# Altium schematic symbol library CONNECTORS_MKlib.SchLib: 57 symbols
Pins are listed as number, name and electrical type; pins without a type are passive.

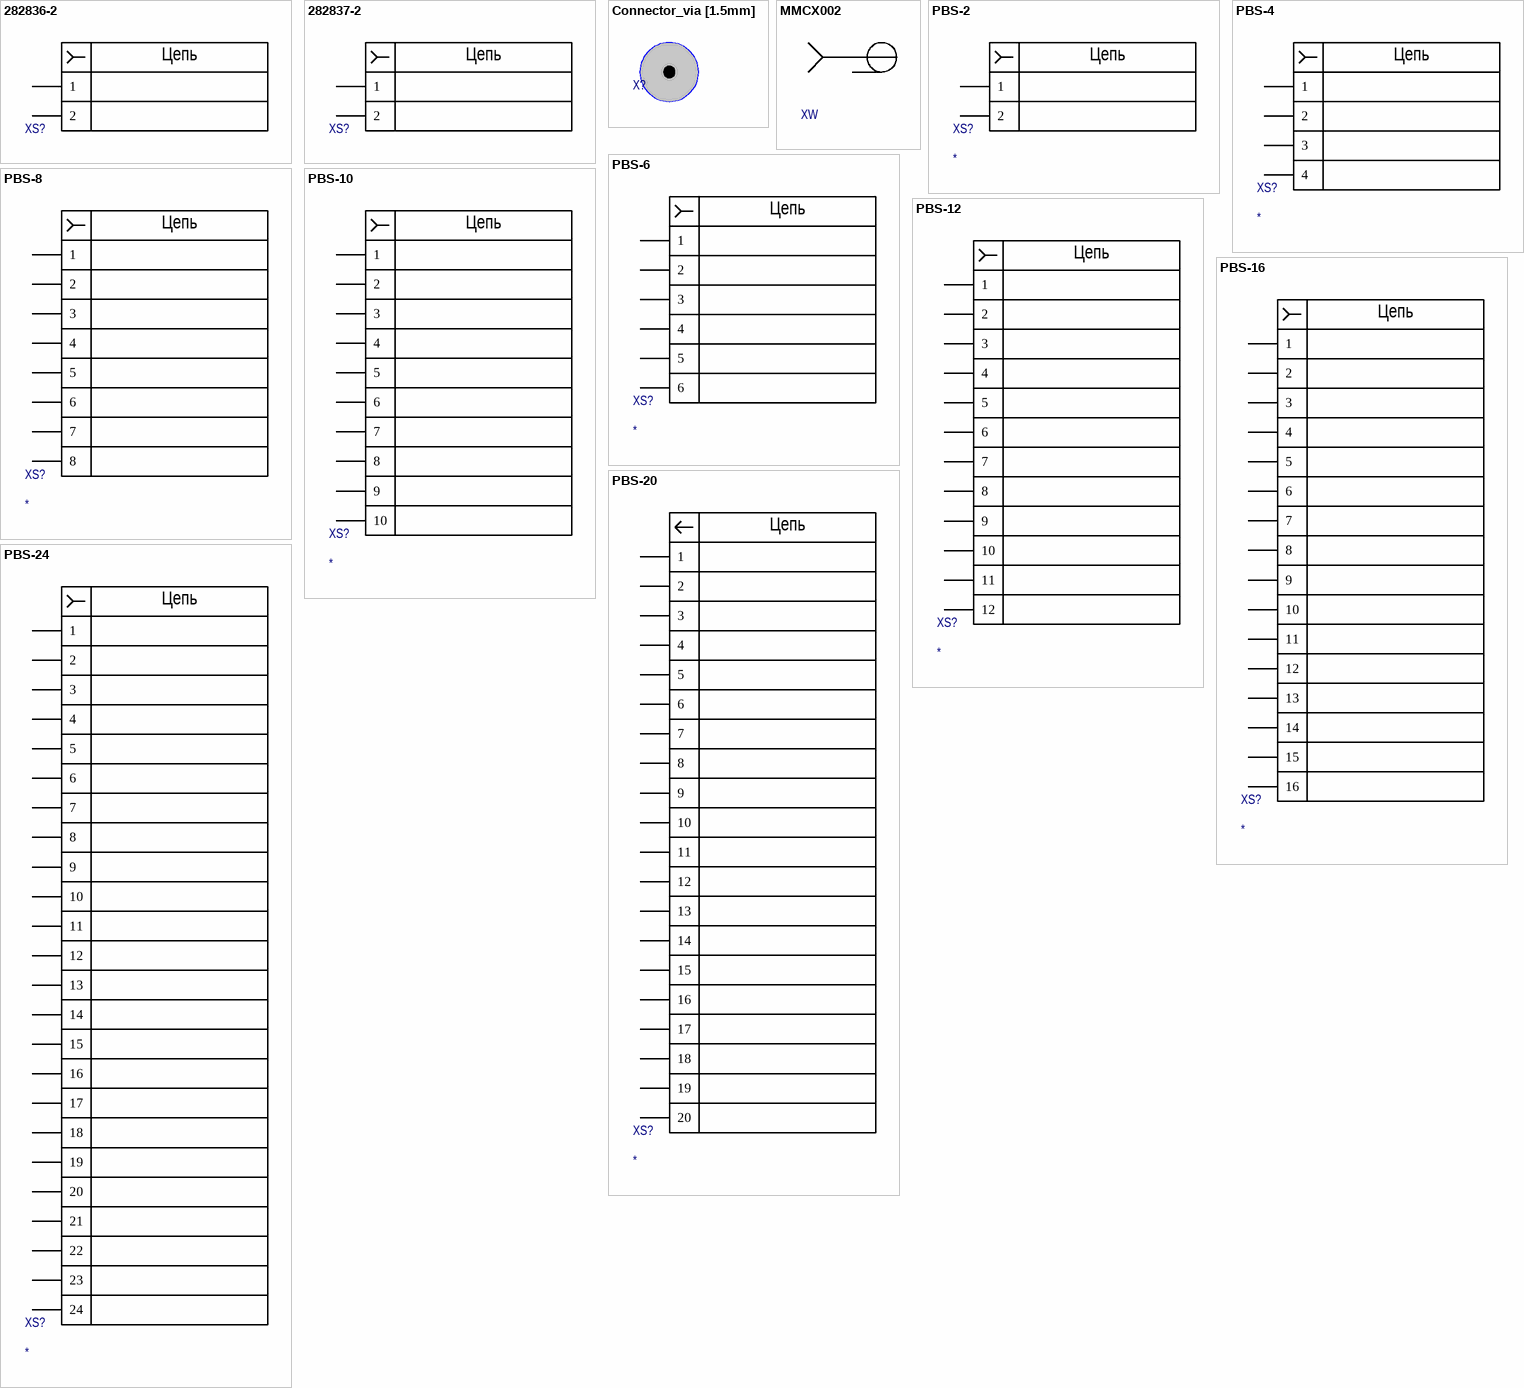
[diagram p0: symbols 282836-2 to PBS-24]

## 282836-2
designator XS?  (value not drawn)
Terminal Block Connector Wire Receptacle 2 5.0mm
footprint 282836-2 (5mm pitch)
pins: 1, 2
text: Цепь

## 282837-2
designator XS?  (value not drawn)
Terminal Block Connector Wire Receptacle 2 5.08mm
footprint 282837-2 (5.08mm pitch)
pins: 1, 2
text: Цепь

## Connector_via [1.5mm]
designator X?  (value not drawn)
footprint CONNECTOR_VIA[1.5MM]
pins: 1

## MMCX002
designator XW  (value not drawn)
footprint MMCX002
pins: 1, 2

## PBS-2
designator XS?
Pin socket 2.54mm
footprint PBS-2
pins: 1, 2
text: Цепь

## PBS-4
designator XS?
Pin socket 2.54mm
footprint PBS-4
pins: 1, 2, 3, 4
text: Цепь

## PBS-6
designator XS?
Pin socket 2.54mm
footprint PBS-6
pins: 1, 2, 3, 4, 5, 6
text: Цепь

## PBS-8
designator XS?
Pin socket 2.54mm
footprint PBS-8
pins: 1, 2, 3, 4, 5, 6, 7, 8
text: Цепь

## PBS-10
designator XS?
Pin socket 2.54mm
footprint PBS-12
pins: 1, 2, 3, 4, 5, 6, 7, 8, 9, 10
text: Цепь

## PBS-12
designator XS?
Pin socket 2.54mm
footprint PBS-12
pins: 1, 2, 3, 4, 5, 6, 7, 8, 9, 10, 11, 12
text: Цепь

## PBS-16
designator XS?
Pin socket 2.54mm
footprint PBS-16
pins: 1, 2, 3, 4, 5, 6, 7, 8, 9, 10, 11, 12, 13, 14, 15, 16
text: Цепь

## PBS-20
designator XS?
Pin socket 2.54mm
footprint PBS-20
pins: 1, 2, 3, 4, 5, 6, 7, 8, 9, 10, 11, 12, 13, 14, 15, 16, 17, 18, 19, 20
text: Цепь

## PBS-24
designator XS?
Pin socket 2.54mm
footprint PBS-24
pins: 1, 2, 3, 4, 5, 6, 7, 8, 9, 10, 11, 12, 13, 14, 15, 16, 17, 18, 19, 20, 21, 22, 23, 24
text: Цепь

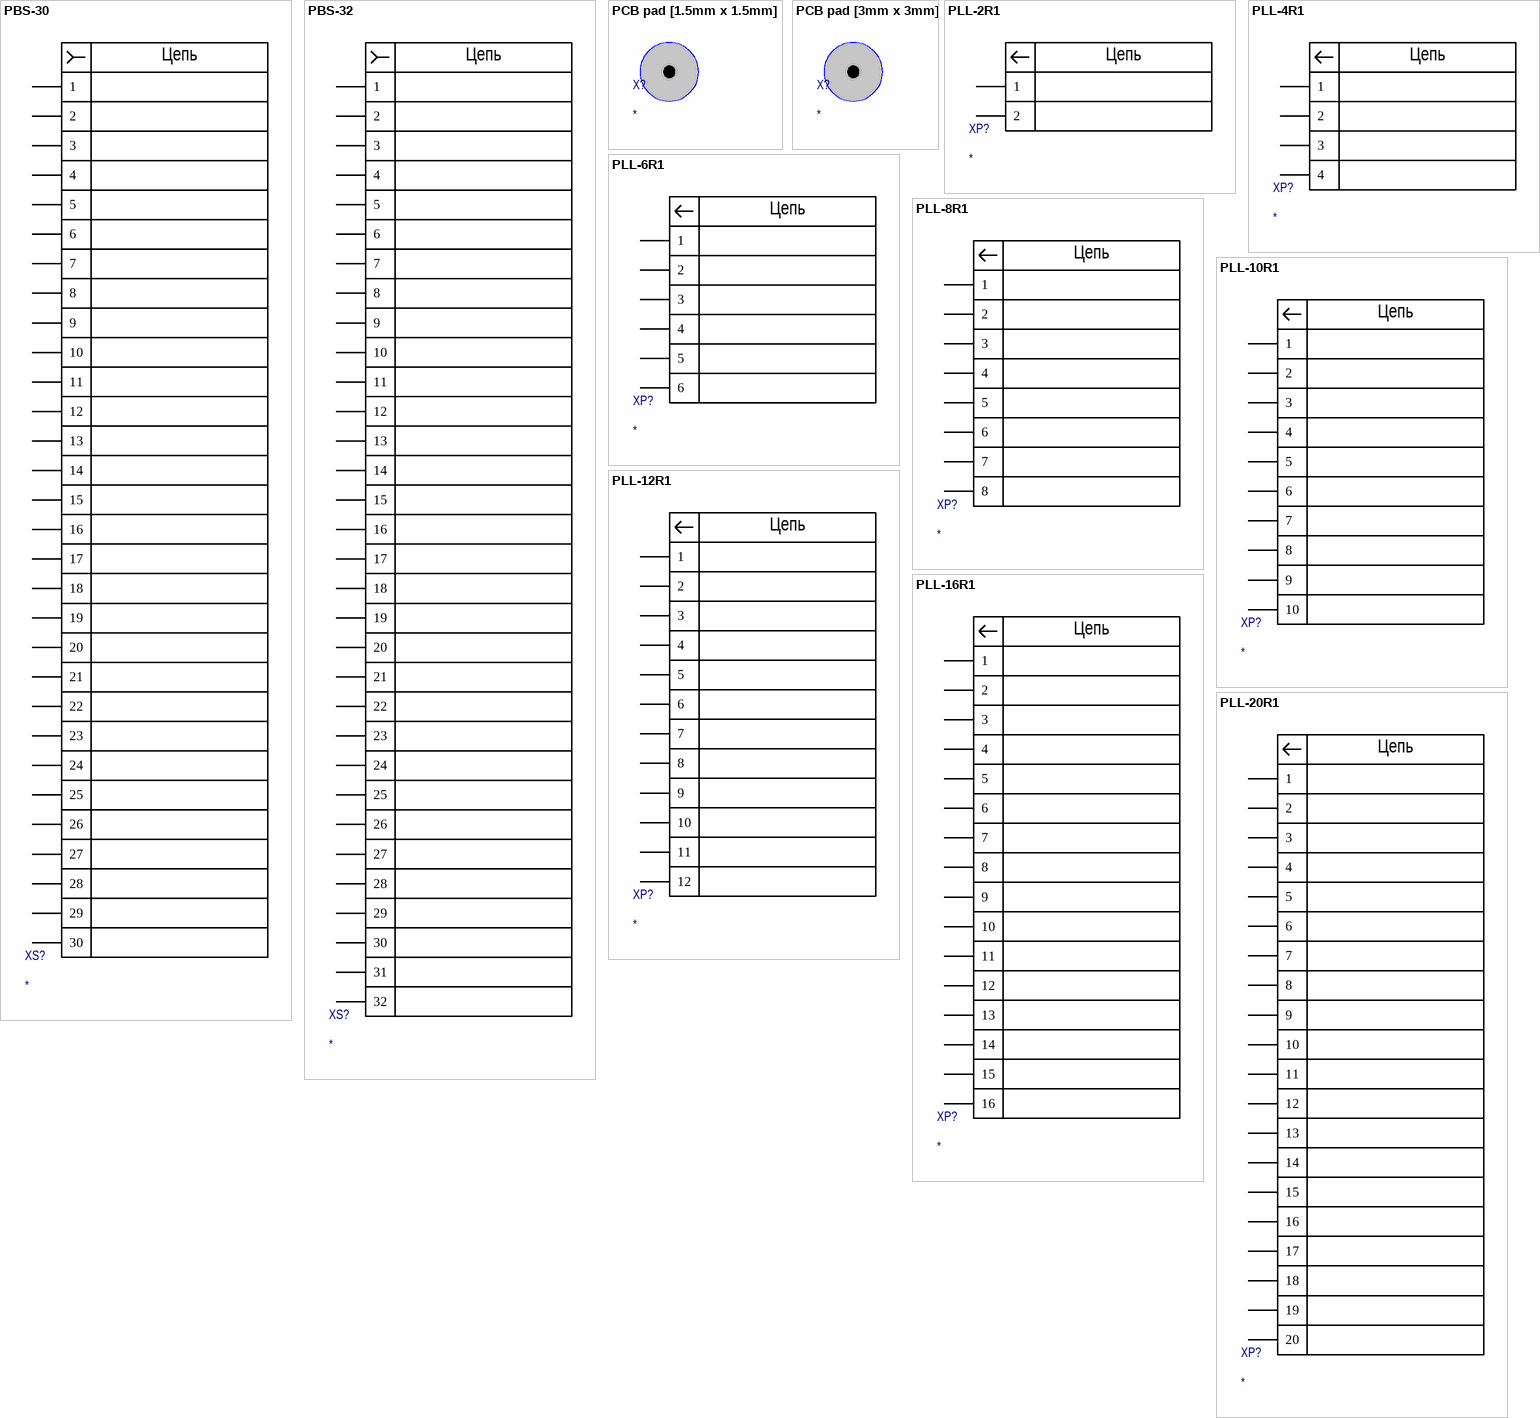
[diagram p1: symbols PBS-30 to PLL-20R1]

## PBS-30
designator XS?
Pin socket 2.54mm
footprint PBS-30
pins: 1, 2, 3, 4, 5, 6, 7, 8, 9, 10, 11, 12, 13, 14, 15, 16, 17, 18, 19, 20, 21, 22, 23, 24, 25, 26, 27, 28, 29, 30
text: Цепь

## PBS-32
designator XS?
Pin socket 2.54mm
footprint PBS-32
pins: 1, 2, 3, 4, 5, 6, 7, 8, 9, 10, 11, 12, 13, 14, 15, 16, 17, 18, 19, 20, 21, 22, 23, 24, 25, 26, 27, 28, 29, 30, 31, 32
text: Цепь

## PCB pad [1.5mm x 1.5mm]
designator X?
General purpose square pcb pad
footprint PCB pad [1.5mm x 1.5mm]
pins: 1

## PCB pad [3mm x 3mm]
designator X?
General purpose square pcb pad
footprint PCB pad [3mm x 3mm] - duplicate
pins: 1

## PLL-2R1
designator XP?
Pin header 1.27mm
footprint PLL-2R1
pins: 1, 2
text: Цепь

## PLL-4R1
designator XP?
Pin header 1.27mm
footprint PLL-4R1
pins: 1, 2, 3, 4
text: Цепь

## PLL-6R1
designator XP?
Pin header 1.27mm
footprint PLL-6R1
pins: 1, 2, 3, 4, 5, 6
text: Цепь

## PLL-8R1
designator XP?
Pin header 1.27mm
footprint PLL-8R1
pins: 1, 2, 3, 4, 5, 6, 7, 8
text: Цепь

## PLL-10R1
designator XP?
Pin header 1.27mm
footprint PLL-10R1
pins: 1, 2, 3, 4, 5, 6, 7, 8, 9, 10
text: Цепь

## PLL-12R1
designator XP?
Pin header 1.27mm
footprint PBS-12
pins: 1, 2, 3, 4, 5, 6, 7, 8, 9, 10, 11, 12
text: Цепь

## PLL-16R1
designator XP?
Pin header 1.27mm
footprint PBS-16
pins: 1, 2, 3, 4, 5, 6, 7, 8, 9, 10, 11, 12, 13, 14, 15, 16
text: Цепь

## PLL-20R1
designator XP?
Pin header 1.27mm
footprint PLL-20R1
pins: 1, 2, 3, 4, 5, 6, 7, 8, 9, 10, 11, 12, 13, 14, 15, 16, 17, 18, 19, 20
text: Цепь

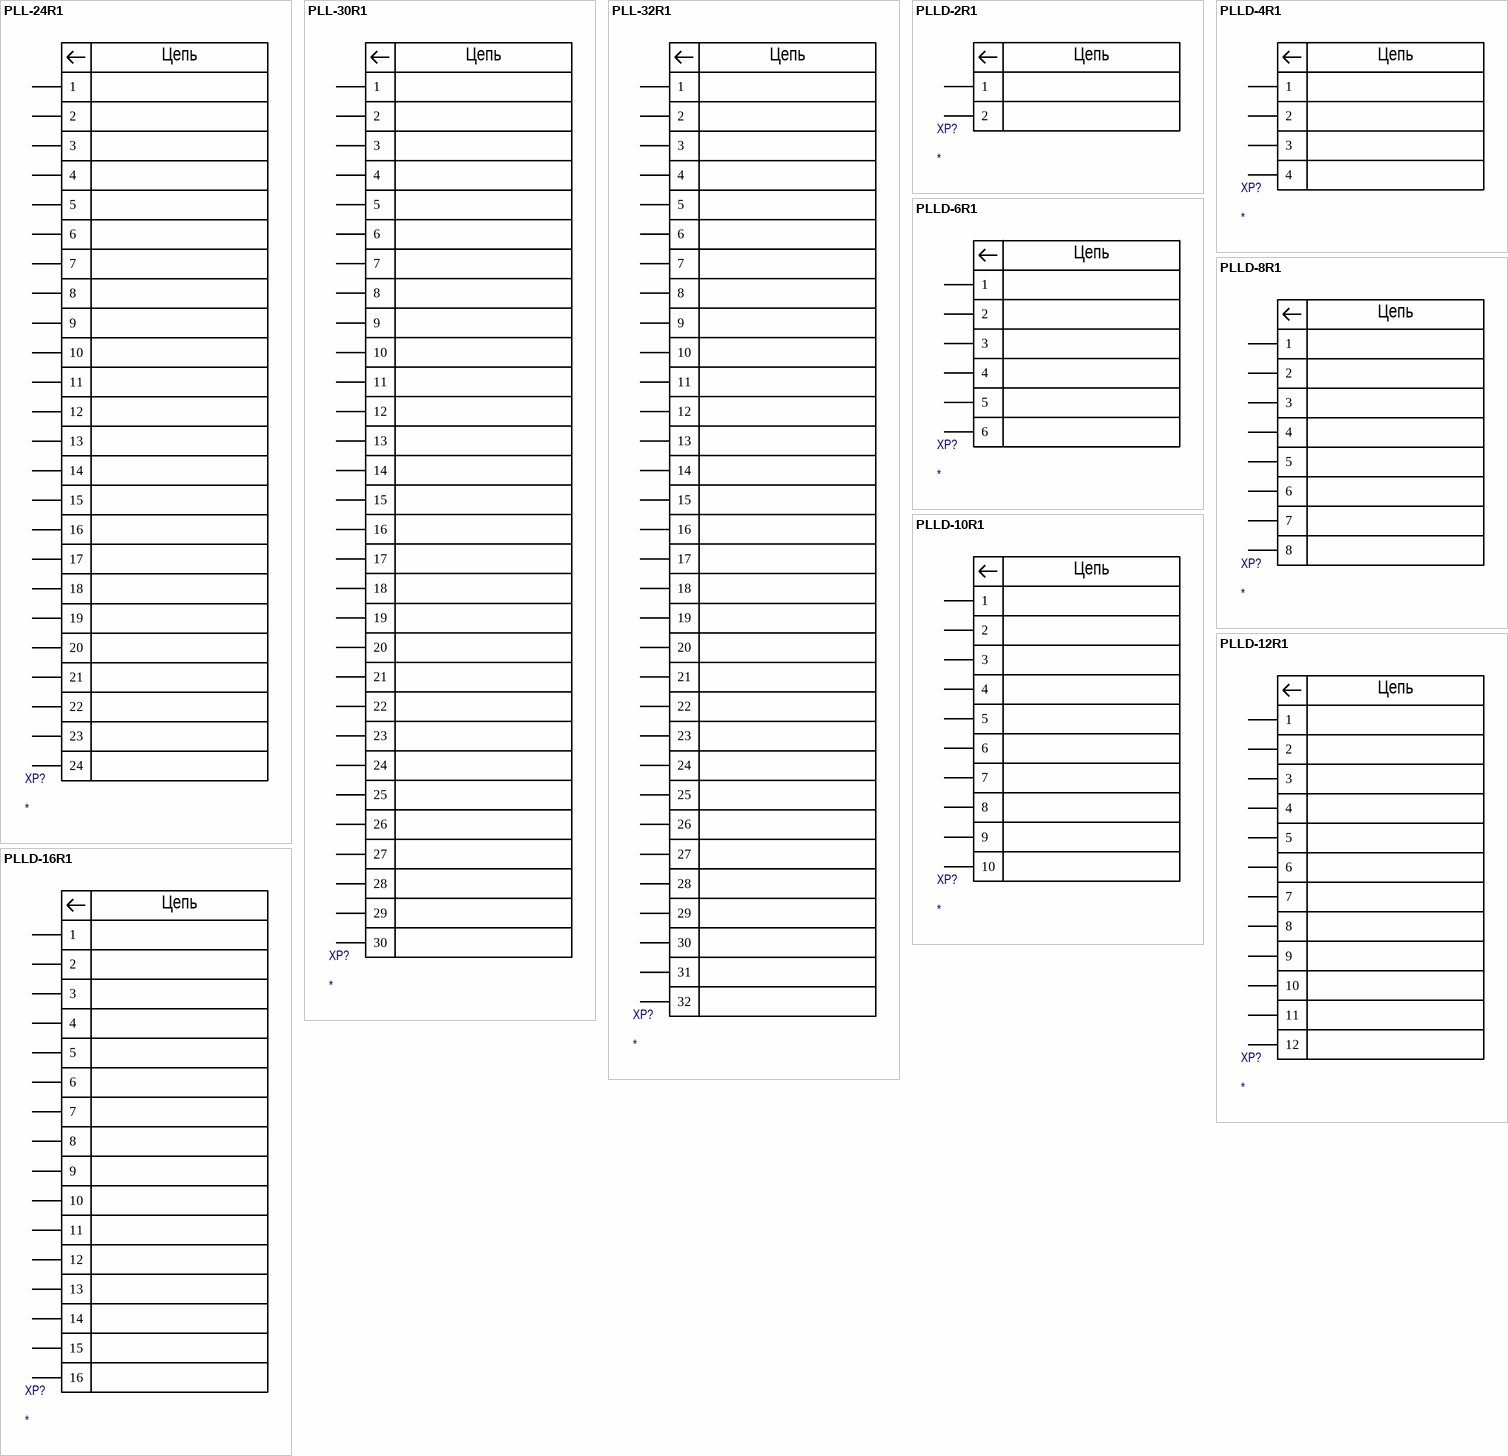
[diagram p2: symbols PLL-24R1 to PLLD-16R1]

## PLL-24R1
designator XP?
Pin header 1.27mm
footprint PLL-24R1
pins: 1, 2, 3, 4, 5, 6, 7, 8, 9, 10, 11, 12, 13, 14, 15, 16, 17, 18, 19, 20, 21, 22, 23, 24
text: Цепь

## PLL-30R1
designator XP?
Pin header 1.27mm
footprint PLL-30R1
pins: 1, 2, 3, 4, 5, 6, 7, 8, 9, 10, 11, 12, 13, 14, 15, 16, 17, 18, 19, 20, 21, 22, 23, 24, 25, 26, 27, 28, 29, 30
text: Цепь

## PLL-32R1
designator XP?
Pin header 1.27mm
footprint PLL-32R1
pins: 1, 2, 3, 4, 5, 6, 7, 8, 9, 10, 11, 12, 13, 14, 15, 16, 17, 18, 19, 20, 21, 22, 23, 24, 25, 26, 27, 28, 29, 30, 31, 32
text: Цепь

## PLLD-2R1
designator XP?
Pin header 1.27mm
footprint PLLD-2R1
pins: 1, 2
text: Цепь

## PLLD-4R1
designator XP?
Pin header 1.27mm
footprint PLLD-4R1
pins: 1, 2, 3, 4
text: Цепь

## PLLD-6R1
designator XP?
Pin header 1.27mm
footprint PLLD-6R1
pins: 1, 2, 3, 4, 5, 6
text: Цепь

## PLLD-8R1
designator XP?
Pin header 1.27mm
footprint PLLD-8R1
pins: 1, 2, 3, 4, 5, 6, 7, 8
text: Цепь

## PLLD-10R1
designator XP?
Pin header 1.27mm
footprint PLLD-10R1
pins: 1, 2, 3, 4, 5, 6, 7, 8, 9, 10
text: Цепь

## PLLD-12R1
designator XP?
Pin header 1.27mm
footprint PLLD-12R1
pins: 1, 2, 3, 4, 5, 6, 7, 8, 9, 10, 11, 12
text: Цепь

## PLLD-16R1
designator XP?
Pin header 1.27mm
footprint PLLD-16R1
pins: 1, 2, 3, 4, 5, 6, 7, 8, 9, 10, 11, 12, 13, 14, 15, 16
text: Цепь

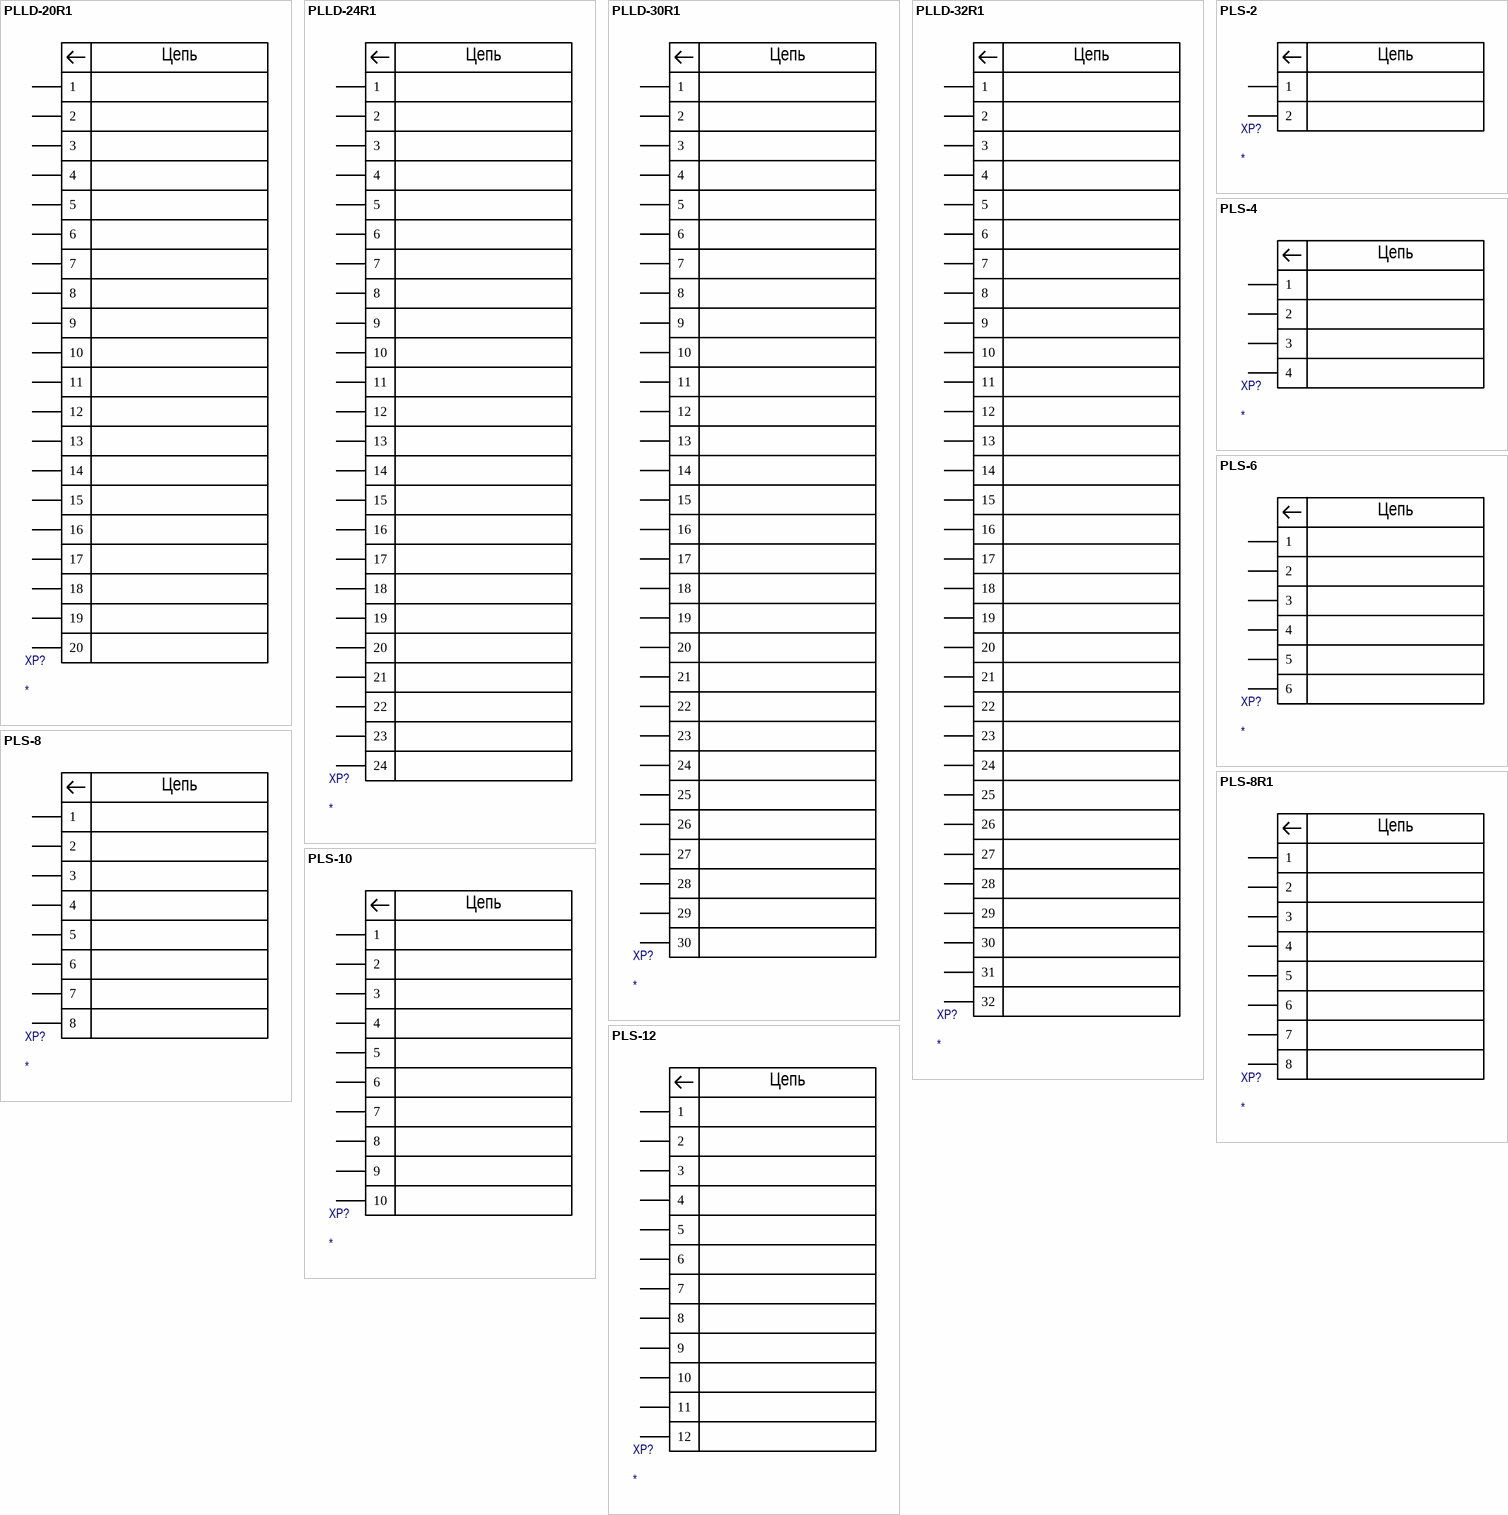
[diagram p3: symbols PLLD-20R1 to PLS-12]

## PLLD-20R1
designator XP?
Pin header 1.27mm
footprint PLLD-20R1
pins: 1, 2, 3, 4, 5, 6, 7, 8, 9, 10, 11, 12, 13, 14, 15, 16, 17, 18, 19, 20
text: Цепь

## PLLD-24R1
designator XP?
Pin header 1.27mm
footprint PLLD-24R1
pins: 1, 2, 3, 4, 5, 6, 7, 8, 9, 10, 11, 12, 13, 14, 15, 16, 17, 18, 19, 20, 21, 22, 23, 24
text: Цепь

## PLLD-30R1
designator XP?
Pin header 1.27mm
footprint PLLD-30R1
pins: 1, 2, 3, 4, 5, 6, 7, 8, 9, 10, 11, 12, 13, 14, 15, 16, 17, 18, 19, 20, 21, 22, 23, 24, 25, 26, 27, 28, 29, 30
text: Цепь

## PLLD-32R1
designator XP?
Pin header 1.27mm
footprint PLLD-32R1
pins: 1, 2, 3, 4, 5, 6, 7, 8, 9, 10, 11, 12, 13, 14, 15, 16, 17, 18, 19, 20, 21, 22, 23, 24, 25, 26, 27, 28, 29, 30, 31, 32
text: Цепь

## PLS-2
designator XP?
Pin header 2.54mm
footprint PLS-2
pins: 1, 2
text: Цепь

## PLS-4
designator XP?
Pin header 2.54mm
footprint PLS-4
pins: 1, 2, 3, 4
text: Цепь

## PLS-6
designator XP?
Pin header 2.54mm
footprint PLS-6
pins: 1, 2, 3, 4, 5, 6
text: Цепь

## PLS-8
designator XP?
Pin header 2.54mm
footprint PLS-8
pins: 1, 2, 3, 4, 5, 6, 7, 8
text: Цепь

## PLS-8R1
designator XP?
footprint PLS-8R1
pins: 1, 2, 3, 4, 5, 6, 7, 8
text: Цепь

## PLS-10
designator XP?
Pin header 2.54mm
footprint PLS-10
pins: 1, 2, 3, 4, 5, 6, 7, 8, 9, 10
text: Цепь

## PLS-12
designator XP?
Pin header 2.54mm
footprint PLS-12
pins: 1, 2, 3, 4, 5, 6, 7, 8, 9, 10, 11, 12
text: Цепь

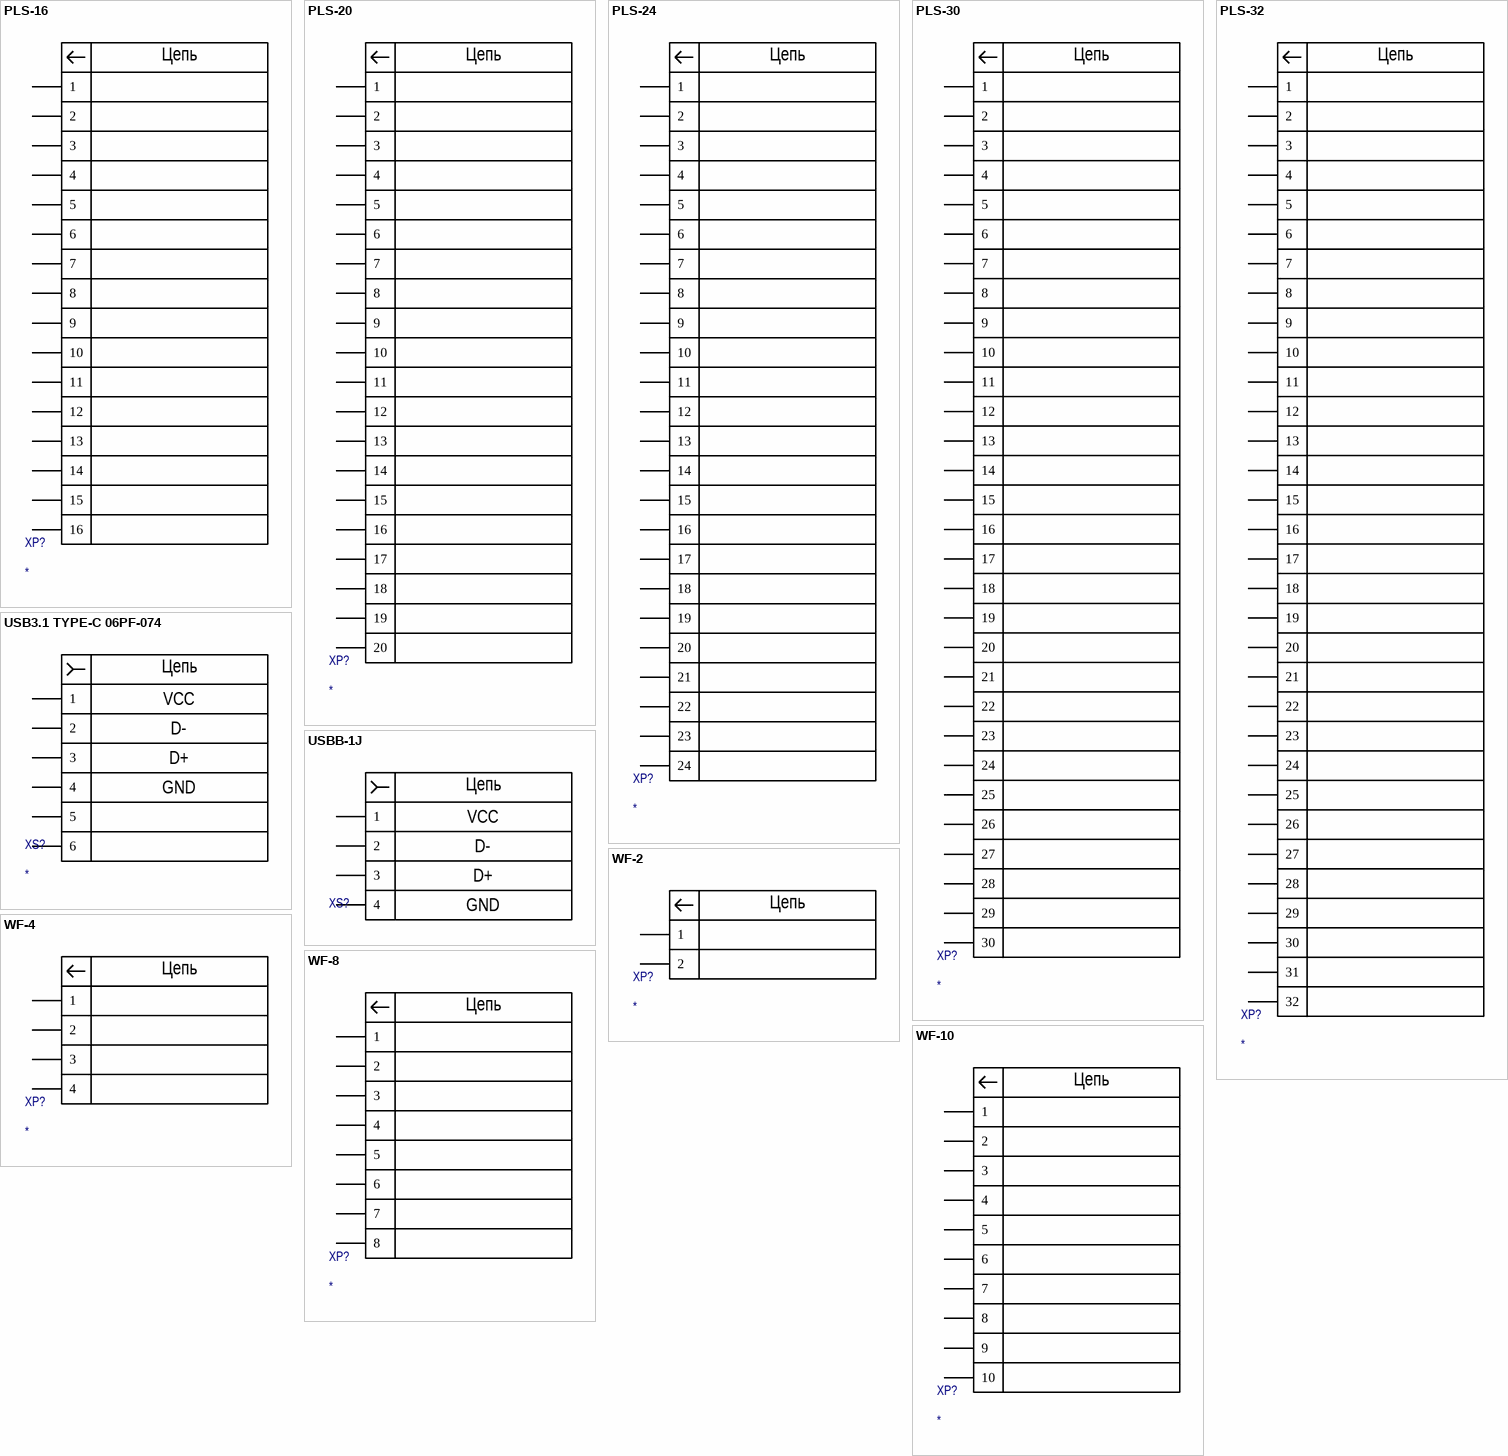
[diagram p4: symbols PLS-16 to WF-10]

## PLS-16
designator XP?
Pin header 2.54mm
footprint PLS-16
pins: 1, 2, 3, 4, 5, 6, 7, 8, 9, 10, 11, 12, 13, 14, 15, 16
text: Цепь

## PLS-20
designator XP?
Pin header 2.54mm
footprint PLS-20
pins: 1, 2, 3, 4, 5, 6, 7, 8, 9, 10, 11, 12, 13, 14, 15, 16, 17, 18, 19, 20
text: Цепь

## PLS-24
designator XP?
Pin header 2.54mm
footprint PLS-24
pins: 1, 2, 3, 4, 5, 6, 7, 8, 9, 10, 11, 12, 13, 14, 15, 16, 17, 18, 19, 20, 21, 22, 23, 24
text: Цепь

## PLS-30
designator XP?
Pin header 2.54mm
footprint PLS-30
pins: 1, 2, 3, 4, 5, 6, 7, 8, 9, 10, 11, 12, 13, 14, 15, 16, 17, 18, 19, 20, 21, 22, 23, 24, 25, 26, 27, 28, 29, 30
text: Цепь

## PLS-32
designator XP?
Pin header 2.54mm
footprint PLS-32
pins: 1, 2, 3, 4, 5, 6, 7, 8, 9, 10, 11, 12, 13, 14, 15, 16, 17, 18, 19, 20, 21, 22, 23, 24, 25, 26, 27, 28, 29, 30, 31, 32
text: Цепь

## USB3.1 TYPE-C 06PF-074
designator XS?
pins: 1, 2, 3, 4, 5, 6
text: Цепь; VCC; D-; D+; GND

## USBB-1J
designator XS?  (value not drawn)
pins: 1, 2, 3, 4
text: Цепь; VCC; D-; D+; GND

## WF-2
designator XP?
Pin header 2.54mm
footprint WF-2
pins: 1, 2
text: Цепь

## WF-4
designator XP?
Pin header 2.54mm
footprint WF-4
pins: 1, 2, 3, 4
text: Цепь

## WF-8
designator XP?
Pin header 2.54mm
footprint WF-8
pins: 1, 2, 3, 4, 5, 6, 7, 8
text: Цепь

## WF-10
designator XP?
Pin header 2.54mm
footprint WF-10
pins: 1, 2, 3, 4, 5, 6, 7, 8, 9, 10
text: Цепь